# Altium footprint library 5-103673-2.PcbLib: 1 footprints
Each footprint in its own frame and in the unit in brackets; x right, y up, seen from the top. Pads: shape width x height; smd on the part's side, far side on the other; paste and mask are expansions set on the pad; w line width, h text height; cw(c..) or ccw(c..) is an arc to the next point about the centre after c.
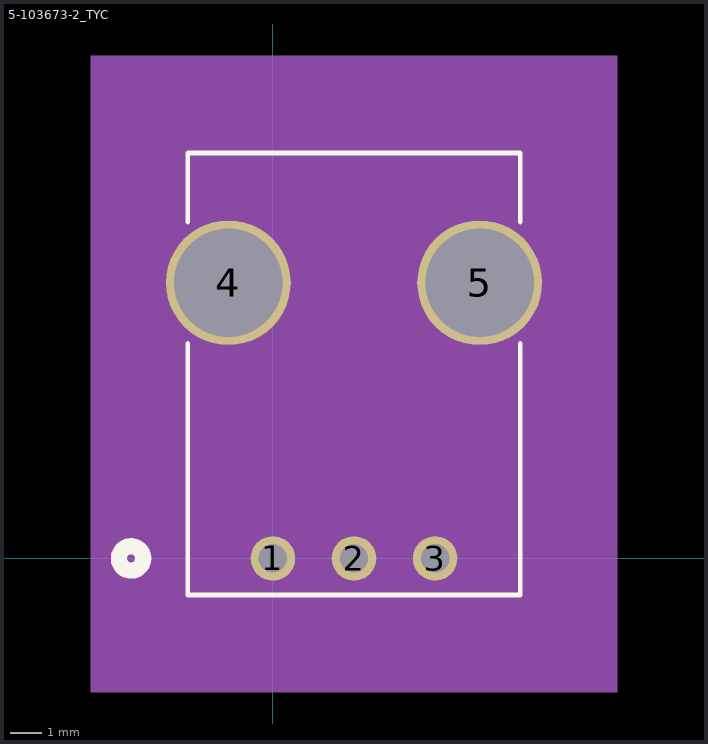
[diagram p0: the footprint, top view; thin cyan lines are the x and y axes]

## 5-103673-2_TYC [mil]
pads (5):
  round 55 hole 35 mask+0: 1(0,0) 2(100,0) 3(200,0)
  round 154 hole 134: 4(-55,340) 5(255,340)
Top Overlay:
  circle w20: c-175,0 r15
  lines w6: -105,265.05 -105,-45 305,-45 305,265.05 ; -105,414.95 -105,500 305,500 305,414.95
Bottom Overlay:
  circle w20: c-175,0 r15
Mechanical 5:
  region: -225,620 425,620 425,-165 -225,-165
Mechanical 13:
  circle w20: c0,-75 r15
  lines w1: -100,-40 -100,495 300,495 300,-40 -100,-40
Mechanical 15:
  region: 342,505 -142,505 -142,-50 342,-50
  lines w6: -142,-50 342,-50 342,505 -142,505 -142,-50
3D body: height 10, standoff 0, extent 0,0 10,10
3D body "c-5-103673-2-ah-3d.stp": height 260.5, standoff -164.5, extent -98,-40.52 297,494.52